# EAGLE library part LVPS (library SWI_COMMONS)
Low Voltage Power Supply
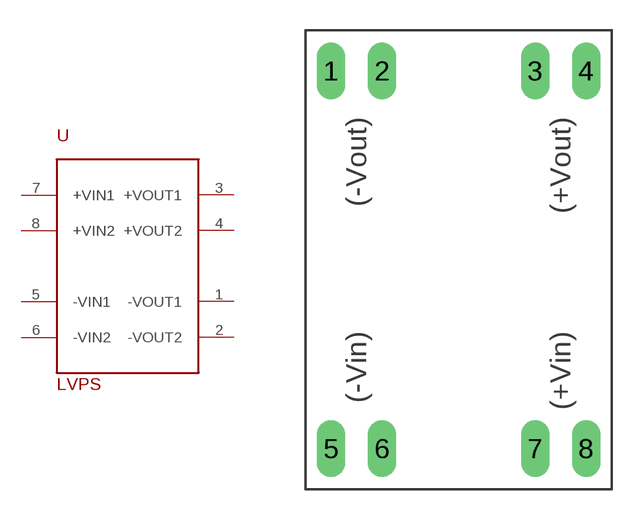
[diagram p7: symbol with the pads of LVPS; footprint LVPS]

Designator prefix -

## LVPS  [LVPS]
1  -VOUT1
2  -VOUT2
3  +VOUT1
4  +VOUT2
5  -VIN1
6  -VIN2
7  +VIN1
8  +VIN2

## Footprint LVPS (pad centres in mm)
drill 0.9 long: 1 -6.35,9.4; 2 -3.81,9.4; 3 3.81,9.4; 4 6.35,9.4; 5 -6.35,-9.4; 6 -3.81,-9.4; 7 3.81,-9.4; 8 6.35,-9.4